# Altium integrated library 636101111001.IntLib: 1 symbol
Pins are listed as number, name and electrical type; pins without a type are passive.

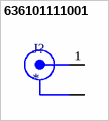
[diagram p0: symbol 636101111001]

## 636101111001
designator J?
MF: {'manufacturer': u'Wurth Electronics'}; MP: 636101111001; Package: None; Price: None; Value: *; Availability: Unavailable
footprint 636101111001
pins: 1, 2, 3 2